# EAGLE library part TPS62135 (library greg-IC)
3-V to 17-V 4-A Step-Down Converter The TPS62135 and TPS621351 are high efficiency and easy to use synchronous step-down DC-DC converters, based on the DCS-Control™ Topology. The devices wide input voltage range of 3-V to 17-V makes it suitable for multi-cell Li-Ion as well as 12-V intermediate supply rails. The devices provide 4-A continuous output current. The TPS62135 automatically enters Power Save Mode at light loads to maintain high efficiency across the whole load range. With that, the device is well suited for applications that require connected standby performance, like ultra low power computers. With the MODE pin set to low, the switching frequency of the device is adapted automatically based on the input and output voltage. This technique is called Automatic Efficiency Enhancement (AEE™) and maintains high conversion efficiency over the whole operation range. It provides a 1% output voltage accuracy in PWM mode and therefore enables the design of a power supply with high output voltage accuracy. The device has a typical quiescent current of 18 µA. In shutdown mode the current is typically 1 µA and the output is actively discharged for TPS62135 while the output voltage discharge feature is disabled in TPS621351. The TPS62135 is available as an adjustable version, packaged in a 3-mm x 2-mm VQFN package. datasheet <http://www.ti.com/lit/ds/symlink/tps62135.pdf>
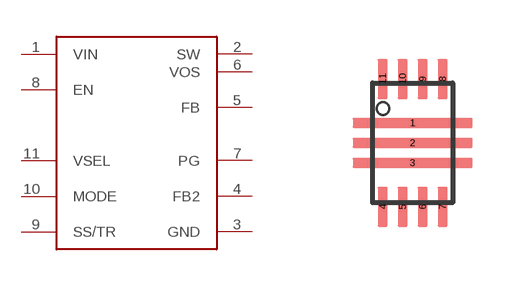
[diagram p7: symbol with the pads of VQFN-HR-11; footprint VQFN-HR-11]

Designator prefix -

## TPS62135RGX  [VQFN-HR-11]
1  VIN
2  SW
3  GND
4  FB2
5  FB
6  VOS
7  PG
8  EN
9  SS/TR
10  MODE
11  VSEL

## Footprint VQFN-HR-11 (pad centres in mm)
smd 3 x 0.25: 1 0,0.5; 2 0,0; 3 0,-0.5
smd 0.25 x 1: 4 -0.75,-1.6; 5 -0.25,-1.6; 6 0.25,-1.6; 7 0.75,-1.6; 8 0.75,1.6; 9 0.25,1.6; 10 -0.25,1.6; 11 -0.75,1.6